# Altium schematic symbol library Current Sensor.SchLib: 1 symbol
Pins are listed as number, name and electrical type; pins without a type are passive.

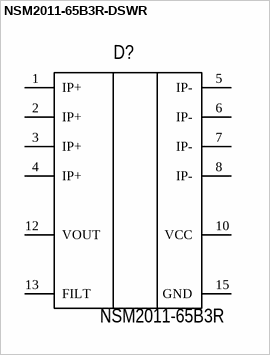
[diagram p0: symbol NSM2011-65B3R-DSWR]

## NSM2011-65B3R-DSWR
designator D?, comment NSM2011-65B3R
IC MUX/DEMUX 8X1 16SOIC; Manufacture: NOVOSENSE; Model: NSM2011-65B3R-DSWR; Name: Датчик тока; Case: 16-SOW; HelpURL: https://www.compel.ru/item-pdf/9d9b71c2063171604dd8e3b5ab1ac8fc/pn/novosens~nsm2011-100b5r-dswr.pdf; Value: NSM2011-65B3R
footprint 16-SOIC (DW) (DW0016A)
pins: 1 IP+, 2 IP+, 3 IP+, 4 IP+, 5 IP-, 6 IP-, 7 IP-, 8 IP-, 10 VCC, 12 VOUT, 13 FILT, 15 GND